# Altium footprint library DRV8701_DualMotorDriver V1.1.PcbLib: 84 footprints (part 1 of 6)
Each footprint in its own frame and in the unit in brackets; x right, y up, seen from the top. Pads: shape width x height; smd on the part's side, far side on the other; paste and mask are expansions set on the pad; w line width, h text height; cw(c..) or ccw(c..) is an arc to the next point about the centre after c.
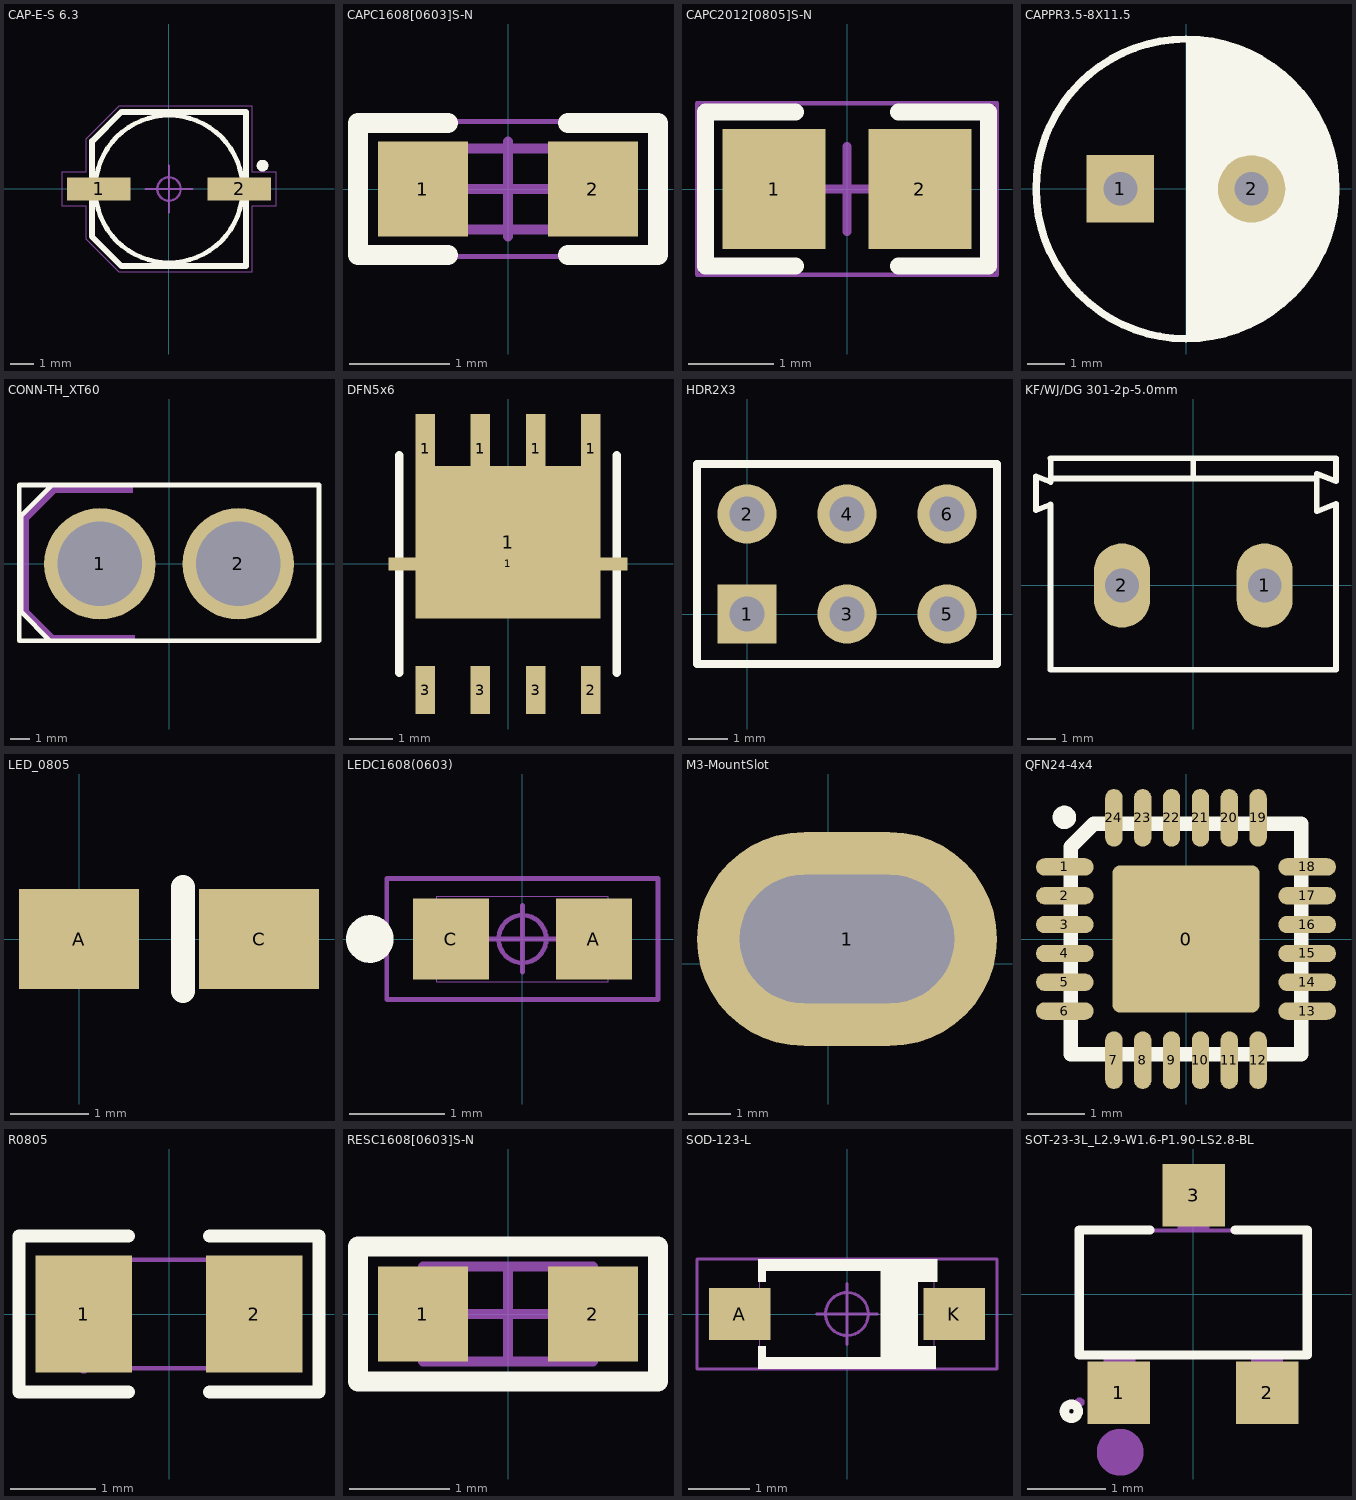
[diagram p0: the footprints below, top view; thin cyan lines are the x and y axes]

## CAP-E-S 6.3 [mm] "贴片 铝电解电容 6.3mm"
height 5.5
pads (2):
  rect 2.7x1 smd: 1(-3,0) 2(3,0)
Top Overlay:
  circle w0.25: c4,1 r0.125
  circle w0.2: c0,0 r3.15
  lines w0.254: -3.3,2.032 -3.3,-2.032 -2.032,-3.3 3.3,-3.3 3.3,3.3 -2.032,3.3 -3.287,2.045
Top Designator:
  text ".Designator" at -2.253,-0.226 h1
Top Component Outline:
  region: -3.524,0.699 -3.524,0.749 -4.6,0.749 -4.6,0.699
  region: -3.525,2.15 -3.575,2.15 -3.575,0.7 -3.525,0.7
  rectangle: -4.6,-0.75 -4.55,0.75
  region: -3.524,-0.751 -3.524,-0.701 -4.6,-0.701 -4.6,-0.751
  rectangle: -3.575,-2.15 -3.525,-0.7
  region: 3.575,3.525 3.575,3.575 -2.15,3.575 -2.15,3.525
  region: -2.115,3.54 -2.15,3.575 -3.575,2.15 -3.54,2.115
  region: -2.15,-3.525 -2.15,-3.575 3.575,-3.575 3.575,-3.525
  region: -3.539,-2.115 -3.575,-2.15 -2.15,-3.575 -2.114,-3.54
  region: 3.575,3.575 3.525,3.575 3.525,0.7 3.575,0.7
  region: 3.525,0.75 3.525,0.7 4.6,0.7 4.6,0.75
  region: 4.6,0.75 4.55,0.75 4.55,-0.75 4.6,-0.75
  region: 4.6,-0.75 4.6,-0.7 3.525,-0.7 3.525,-0.75
  region: 3.575,-0.7 3.525,-0.7 3.525,-3.575 3.575,-3.575
Top Component Center:
  circle w0.1: c0,0 r0.5
  lines w0.1: -1,0 1,0 ; 0,-1 0,1
3D body "SL-E.step": height 5.2, standoff 0, extent -3.5,-3.302 3.5,3.298

## CAPC1608[0603]S-N [mm]
pads (2):
  rect 0.9x0.95 smd: 1(-0.85,0) 2(0.85,0)
Top Overlay:
  lines w0.2: -0.6,-0.66 -1.499,-0.66 -1.499,0.66 -0.6,0.66 ; 0.6,-0.66 1.499,-0.66 1.499,0.66 0.6,0.66
Mechanical 13:
  lines w0.1: -0.8,-0.406 -0.8,0.406 0.825,0.406 0.825,-0.406 -0.8,-0.406
Mechanical 15:
  lines w0.05: -1.5,-0.675 1.5,-0.675 1.5,0.675 -1.5,0.675 -1.5,-0.675
  lines w0.1: -0.475,0 0.475,0 ; 0,-0.475 0,0.475
3D body: height 0.79, standoff 0, extent -0.45,-0.406 0.45,0.406
3D body: height 0.79, standoff 0, extent 0.45,-0.406 0.8,0.407
3D body: height 0.79, standoff 0, extent -0.8,-0.406 -0.45,0.406

## CAPC2012[0805]S-N [mm]
pads (2):
  rect 1.2x1.4 smd: 1(-0.85,0) 2(0.85,0)
Top Overlay:
  lines w0.2: -0.6,-0.9 -1.65,-0.9 -1.65,0.9 -0.6,0.9 ; 0.6,-0.9 1.65,-0.9 1.65,0.9 0.6,0.9
Mechanical 15:
  lines w0.05: -1.75,-1 1.75,-1 1.75,1 -1.75,1 -1.75,-1
  lines w0.1: -0.5,0 0.5,0 ; 0,-0.5 0,0.5
3D body "capacitor_rnd1500805b106k6r3.stp": height 1.25, standoff 0, extent -1,-0.627 1,0.623

## CAPPR3.5-8X11.5 [mm]
pads (2):
  rect 1.8x1.8 hole 0.9: 1(-1.75,0)
  round 1.8 hole 0.9: 2(1.75,0)
Top Overlay:
  circle w0.2: c0,0 r4
  region: 0,-4.006 0,3.994 0.315,3.994 0.937,3.895 1.535,3.701 2.096,3.415 2.606,3.045 3.051,2.6 3.421,2.09 3.707,1.529 3.902,0.93 4,0.309 4,-0.321 3.902,-0.943 3.707,-1.542 3.421,-2.103 3.051,-2.612 2.606,-3.057 2.096,-3.427 1.535,-3.713 0.937,-3.908 0.315,-4.006
3D body "CAPR3.5-8-11.5.STEP": height 11.5, standoff -2.5, extent -4,-3.984 4,3.985

## CONN-TH_XT60 [mm]
pads (2):
  round 5.8 hole 4.4 paste+0 mask+0.05: 1(-3.6,0) 2(3.6,0)
Top Overlay:
  lines w0.254: -5.999,-4 -7.8,-4 -7.8,4.1 -6.101,4.1 ; -5.301,4.1 7.8,4.1 7.8,-4 -6.2,-4 -7.699,-2.499 -7.699,2.499 -6.101,4.1 ; -5.199,4.1 -6.101,4.1
Mechanical 6:
  region: -1.9,4.1 -6.1,4.1 -7.7,2.5 -7.7,-2.5 -6.2,-4 -1.8,-4 -1.8,-3.7 -6,-3.7 -7.3,-2.4 -7.3,2.3 -5.9,3.7 -1.9,3.7
Mechanical 15:
  region: 5.35,0 5.35,0.172 5.283,0.51 5.151,0.829 4.959,1.116 4.716,1.359 4.429,1.551 4.11,1.683 3.772,1.75 3.428,1.75 3.089,1.683 2.771,1.551 2.484,1.359 2.241,1.116 2.049,0.829 1.917,0.51 1.85,0.172 1.85,0 1.85,-0.172 1.917,-0.51 2.049,-0.829 2.241,-1.116 2.484,-1.359 2.771,-1.551 3.089,-1.683 3.428,-1.75 3.772,-1.75 4.11,-1.683 4.429,-1.551 4.716,-1.359 4.959,-1.116 5.151,-0.829 5.283,-0.51 5.35,-0.172 5.35,0
  region: -1.85,0 -1.85,0.172 -1.917,0.51 -2.049,0.829 -2.241,1.116 -2.484,1.359 -2.771,1.551 -3.09,1.683 -3.428,1.75 -3.772,1.75 -4.11,1.683 -4.429,1.551 -4.716,1.359 -4.959,1.116 -5.151,0.829 -5.283,0.51 -5.35,0.172 -5.35,0 -5.35,-0.172 -5.283,-0.51 -5.151,-0.829 -4.959,-1.116 -4.716,-1.359 -4.429,-1.551 -4.11,-1.683 -3.772,-1.75 -3.428,-1.75 -3.089,-1.683 -2.771,-1.551 -2.484,-1.359 -2.241,-1.116 -2.049,-0.829 -1.917,-0.51 -1.85,-0.172 -1.85,0
  region: -7.69,-4.05 -7.69,-4.025 -7.725,-3.99 -7.775,-3.99 -7.81,-4.025 -7.81,-4.05 -7.81,-4.075 -7.775,-4.11 -7.725,-4.11 -7.69,-4.075 -7.69,-4.05
  lines w0.051: -7.75,-4.05 7.75,-4.05 7.75,4.05 -7.75,4.05 -7.75,-4.05

## DFN5x6 [mm]
pads (10):
  rect 0.45x1.6 smd: 1(-1.905,2.65) 1(-0.635,2.65) 1(0.635,2.65) 1(1.905,2.65)
  rect 5.5x0.3 smd: 1(0,0)
  rect 4.25x3.5 smd: 1(0,0.5)
  rect 0.45x1.1 smd: 2(1.905,-2.9) 3(-1.905,-2.9) 3(-0.635,-2.9) 3(0.635,-2.9)
Top Overlay:
  lines w0.2: -2.5,-2.5 -2.5,2.5 ; 2.5,-2.5 2.5,2.5
3D body "User Library-SON5x6.STEP": height 1, standoff 0, extent -2.45,-3 2.45,3

## HDR2X3 [mm]
pads (6):
  rect 1.5x1.5 hole 0.9: 1(0,0)
  round 1.5 hole 0.9: 2(0,2.54) 3(2.54,0) 4(2.54,2.54) 5(5.08,0) 6(5.08,2.54)
Top Overlay:
  lines w0.2: 1.482,-1.27 6.35,-1.27 ; 6.35,-1.27 -1.27,-1.27 -1.27,3.81 6.35,3.81 6.35,-1.27
3D body "HDR2x3.STEP": height 8.54, standoff -3, extent -1.27,-1.27 6.35,3.81

## KF/WJ/DG 301-2p-5.0mm [mm]
pads (2):
  oval 2x3 hole 1.2: 1(2.54,0) 2(-2.54,0)
Top Overlay:
  lines w0.2: -5.08,2.879 -5.6,2.676 -5.6,3.886 -5.08,3.683 -5.08,4.525 ; 5.08,-2.997 5.08,2.904 4.394,2.636 4.394,3.976 5.08,3.708 5.08,4.525
  lines w0.203: -5.08,2.879 -5.08,-2.997 5.08,-2.997 ; -5.08,3.81 4.365,3.81 ; -5.08,4.525 5.08,4.525 ; 0,3.81 0,4.445
3D body "Terminal-Screw-3A-2way.step": height 10, standoff -3, extent -5.6,-3 5,4.6

## LED_0805 [mil]
height 4251.97
pads (2):
  rect 60x50 smd: A(0,0) C(90,0)
Top Overlay:
  lines w12: 52,-26 52,26
3D body "User Library-led_0805.STEP": height 43.31, standoff 0, extent 5.24,-22.61 84.77,26.6

## LEDC1608(0603) [mm]
pads (2):
  rect 0.8x0.85 smd: A(0.75,0) C(-0.75,0)
Top Overlay:
  circle w0.25: c-1.6,0 r0.125
Mechanical 15:
  circle w0.05: c0,0 r0.25
  lines w0.001: -0.9,-0.45 -0.9,0.45 0.9,0.45 0.9,-0.45 -0.9,-0.45
  lines w0.05: -0.348,0 0.352,0 ; 0,-0.348 0,0.352 ; -1.422,-0.635 -1.422,0.635 1.422,0.635 1.422,-0.635 -1.422,-0.635
3D body "0603 (1608) LED Base (Separate Lens).STEP": height 0.64, standoff 0, extent -0.8,-0.4 0.8,0.4
3D body: height 0.64, standoff 0, extent -0.559,-0.4 0.559,0.4

## M3-MountSlot [mm]
pads (1):
  oval 7x5 hole 3 slot 5 at 0 deg: 1(0.436,0.579)

## QFN24-4x4 [mm]
pads (25):
  rrect10% 2.55x2.55 smd: 0(0,0)
  oval 1x0.3 smd: 1(-2.1,1.25) 2(-2.1,0.75) 3(-2.1,0.25) 4(-2.1,-0.25) 5(-2.1,-0.75) 6(-2.1,-1.25) 13(2.1,-1.25) 14(2.1,-0.75) 15(2.1,-0.25) 16(2.1,0.25) 17(2.1,0.75) 18(2.1,1.25)
  oval 0.3x1 smd: 7(-1.25,-2.1) 8(-0.75,-2.1) 9(-0.25,-2.1) 10(0.25,-2.1) 11(0.75,-2.1) 12(1.25,-2.1) 19(1.25,2.1) 20(0.75,2.1) 21(0.25,2.1) 22(-0.25,2.1) 23(-0.75,2.1) 24(-1.25,2.1)
Top Overlay:
  circle w0.203: c-2.108,2.108 r0.102
  lines w0.254: -2,-2 2,-2 2,2 -1.6,2 -2,1.6 -2,-2
3D body "User Library-QFN 24 4x4.step": height 0.9, standoff 0, extent -2.002,-2.002 2.002,2.002

## R0805 [mm]
pads (2):
  rect 1.133x1.377 smd paste-100 mask+0.051: 1(-1,0) 2(1,0)
Top Overlay:
  lines w0.152: -0.476,-0.917 -1.761,-0.917 -1.761,0.917 -0.476,0.917 ; 0.476,-0.917 1.761,-0.917 1.761,0.917 0.476,0.917
Top Paste:
  region: -1.7,-0.64 -1.7,0.64 -1.65,0.69 -0.5,0.69 -0.45,0.64 -0.445,0.23 -0.895,0.23 -0.895,-0.22 -0.455,-0.22 -0.45,-0.64 -0.5,-0.69 -1.65,-0.69
  region: 0.45,-0.64 0.45,-0.22 0.895,-0.22 0.895,0.23 0.455,0.23 0.45,0.64 0.5,0.69 1.65,0.69 1.7,0.64 1.7,-0.64 1.65,-0.69 0.5,-0.69
Mechanical 15:
  region: -1,-0.637 -1,0.637 -0.6,0.637 -0.6,-0.637
  region: 1,-0.637 1,0.637 0.6,0.637 0.6,-0.637
  region: -0.94,-0.638 -0.941,-0.614 -0.976,-0.58 -1.024,-0.58 -1.059,-0.613 -1.06,-0.637 -1.059,-0.661 -1.024,-0.695 -0.976,-0.695 -0.941,-0.662 -0.94,-0.638
  lines w0.051: -1,-0.637 -1,0.637 1,0.637 1,-0.637 -1,-0.637

## RESC1608[0603]S-N [mm]
pads (2):
  rect 0.9x0.95 smd: 1(-0.85,0) 2(0.85,0)
Top Overlay:
  lines w0.2: -1.5,-0.675 -1.5,0.675 1.499,0.675 1.499,-0.675 -1.5,-0.675
Mechanical 13:
  lines w0.1: -0.85,-0.475 -0.85,0.475 0.85,0.475 0.85,-0.475 -0.85,-0.475
Mechanical 15:
  lines w0.05: -1.5,-0.675 -1.5,0.675 1.5,0.675 1.5,-0.675 -1.5,-0.675
  lines w0.1: -0.475,0 0.475,0 ; 0,-0.475 0,0.475
3D body "R0603.STEP": height 0.45, standoff 0, extent -0.8,-0.4 0.8,0.4

## SOD-123-L [mm]
pads (2):
  rect 1x0.85 smd: A(-1.75,0) K(1.75,0)
Top Overlay:
  rectangle: 0.55,-0.8 1.16,0.8
  rectangle: -1.45,0.525 -1.325,0.9
  region: -1.325,-0.525 -1.45,-0.525 -1.45,-0.9 -1.325,-0.9
  rectangle: 0.9,0.525 1.475,0.9
  region: 1.45,-0.525 0.85,-0.525 0.85,-0.9 1.45,-0.9
  lines w0.2: -1.35,-0.8 1.35,-0.8 ; -1.35,0.8 1.35,0.8
Mechanical 15:
  circle w0.05: c0,0 r0.35
  lines w0.001: -1.425,-0.9 -1.425,0.9 1.425,0.9 1.425,-0.9 -1.425,-0.9
  lines w0.05: -0.5,0 0.5,0 ; 0,-0.5 0,0.5 ; -2.45,-0.9 -2.45,0.9 2.45,0.9 2.45,-0.9 -2.45,-0.9
3D body "SOD-123.STEP": height 1.2, standoff 0, extent -1.85,-0.8 1.85,0.8

## SOT-23-3L_L2.9-W1.6-P1.90-LS2.8-BL [mm]
pads (3):
  rect 0.8x0.8 smd paste+0 mask+0.05: 1(-0.95,-1.265) 2(0.95,-1.265) 3(0.005,1.265)
Top Overlay:
  circle w0.12: c-1.56,-1.5 r0.089
  lines w0.12: -0.553,0.82 -1.46,0.82 -1.46,-0.78 1.46,-0.78 1.46,0.82 0.54,0.82
Mechanical 6:
  circle w0.3: c-0.935,-2.025 r0.15
Mechanical 15:
  region: -1.395,-1.385 -1.395,-1.36 -1.43,-1.325 -1.48,-1.325 -1.515,-1.36 -1.515,-1.385 -1.515,-1.41 -1.48,-1.445 -1.43,-1.445 -1.395,-1.41 -1.395,-1.385
  region: 0.745,-1.025 0.745,-0.775 1.145,-0.775 1.145,-1.025
  region: 0.745,-1.385 0.745,-1.015 1.145,-1.015 1.145,-1.385
  region: -1.145,-1.025 -1.145,-0.775 -0.745,-0.775 -0.745,-1.025
  region: -1.145,-1.385 -1.145,-1.015 -0.745,-1.015 -0.745,-1.385
  region: -0.195,0.805 -0.195,1.055 0.205,1.055 0.205,0.805
  region: -0.195,1.045 -0.195,1.415 0.205,1.415 0.205,1.045
  lines w0.051: -1.455,-0.785 1.465,-0.785 1.465,0.815 -1.455,0.815 -1.455,-0.785